# EAGLE library part 16PIN2MMWSMATRIX (library con-eko)
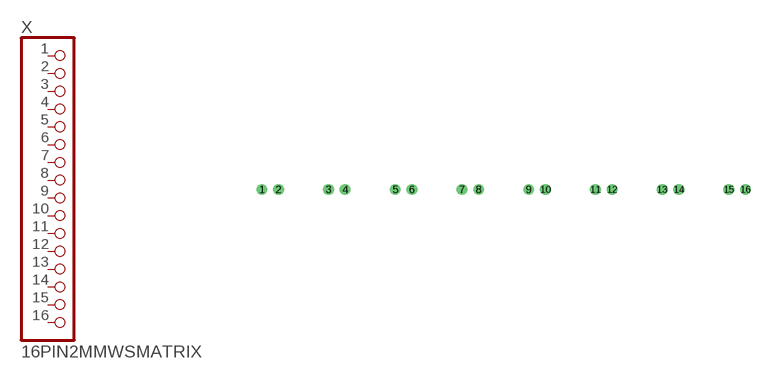
[diagram p3: symbol with the pads of 16PIN2MMWSMATRIX; footprint 16PIN2MMWSMATRIX]

Designator prefix X

## 16PIN2MMWSMATRIX  [16PIN2MMWSMATRIX]
1  1  pas
2  2  pas
3  3  pas
4  4  pas
5  5  pas
6  6  pas
7  7  pas
8  8  pas
9  9  pas
10  10  pas
11  11  pas
12  12  pas
13  13  pas
14  14  pas
15  15  pas
16  16  pas

## Footprint 16PIN2MMWSMATRIX (pad centres in mm)
drill 0.8: 1 -29,0; 2 -27,0; 3 -21,0; 4 -19,0; 5 -13,0; 6 -11,0; 7 -5,0; 8 -3,0; 9 3,0; 10 5,0; 11 11,0; 12 13,0; 13 19,0; 14 21,0; 15 27,0; 16 29,0